# Altium footprint library 2016-06-22_14-55-40.PcbLib: 6 footprints
Each footprint in its own frame and in the unit in brackets; x right, y up, seen from the top. Pads: shape width x height; smd on the part's side, far side on the other; paste and mask are expansions set on the pad; w line width, h text height; cw(c..) or ccw(c..) is an arc to the next point about the centre after c.
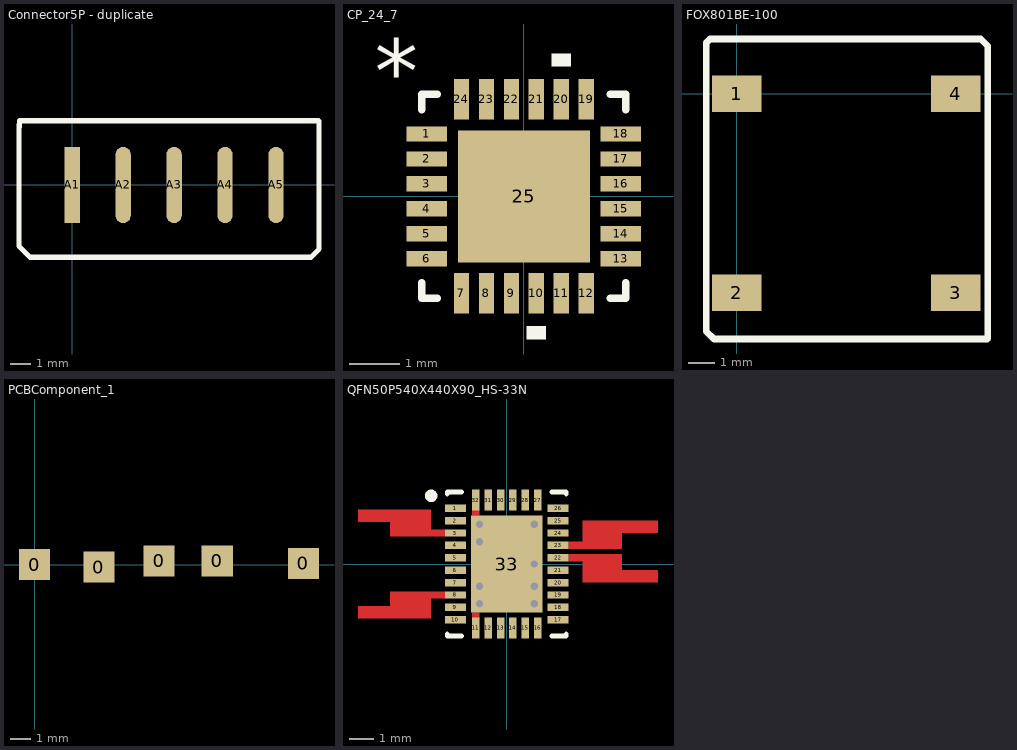
[diagram p0: the footprints below, top view; thin cyan lines are the x and y axes]

## Connector5P - duplicate [mil]
pads (5):
  rect 30x150 smd: A1(0,0)
  oval 30x150 smd: A2(100,0) A3(200,0) A4(300,0) A5(400,0)
Top Overlay:
  lines w10: -104.33,118.11 -104.33,-120.08 -82.68,-141.73 468.5,-141.73 484.25,-125.98 484.25,125 483.27,125.98 -103.35,125.98 -103.35,114.17 ; -103.35,114.17 -103.35,114.17

## CP_24_7 [mil]
pads (25):
  rect 32x12 smd mask+5: 1(-76.5,49.21) 2(-76.5,29.53) 3(-76.5,9.84) 4(-76.5,-9.84) 5(-76.5,-29.53) 6(-76.5,-49.21) 13(76.5,-49.21) 14(76.5,-29.53) 15(76.5,-9.84) 16(76.5,9.84) 17(76.5,29.53) 18(76.5,49.21)
  rect 12x32 smd mask+5: 7(-49.21,-76.5) 8(-29.53,-76.5) 9(-9.84,-76.5) 10(9.84,-76.5) 11(29.53,-76.5) 12(49.21,-76.5) 19(49.21,76.5) 20(29.53,76.5) 21(9.84,76.5) 22(-9.84,76.5) 23(-29.53,76.5) 24(-49.21,76.5)
  rect 104x104 smd mask-51.5: 25(0,0)
Top Overlay:
  region: 17.34,-102.5 2.34,-102.5 2.34,-112.5 17.34,-112.5
  region: 37.03,102.5 22.03,102.5 22.03,112.5 37.03,112.5
  lines w6: -80.5,-68.31 -80.5,-80.5 -68.31,-80.5 ; -80.5,68.31 -80.5,80.5 -68.31,80.5 ; 68.31,-80.5 80.5,-80.5 80.5,-68.31 ; 68.31,80.5 80.5,80.5 80.5,68.31
  text "*" at -117.5,74.06 h50
Mechanical 13:
  text "*" at -117.5,74.06 h50

## FOX801BE-100 [mm]
pads (4):
  rect 1.9x1.4 smd: 1(0,0) 2(0,-7.62) 3(8.4,-7.62) 4(8.4,0)
Top Overlay:
  lines w0.254: -1.175,0.875 -1.175,-9.1 -0.875,-9.4 9.6,-9.4 9.625,-9.375 9.625,1.825 9.35,2.1 -1.025,2.1 -1.175,1.95 -1.175,0.95

## PCBComponent_1 [mil]
pads (5):
  rect 60x60 smd: 0(0,0) 0(124.02,-4.92) 0(240.16,6.89) 0(352.36,6.89) 0(518.7,1.97)

## PCBComponent_1 - duplicate [mm]

## QFN50P540X440X90_HS-33N [mm] "QFN, 32-Leads, Body 5.40x4.40mm, Pitch 0.50mm, Thermal Pad 3.90x2.90mm, IPC Medium Density"
height 0.9
pads (33):
  rect 0.85x0.3 smd mask+0: 1(-2.075,2.25) 3(-2.075,1.25) 4(-2.075,0.75) 5(-2.075,0.25) 6(-2.075,-0.25) 7(-2.075,-0.75) 8(-2.075,-1.25) 9(-2.075,-1.75) 10(-2.075,-2.25) 17(2.075,-2.25) 18(2.075,-1.75) 19(2.075,-1.25) 20(2.075,-0.75) 21(2.075,-0.25) 22(2.075,0.25) 23(2.075,0.75) 24(2.075,1.25) 25(2.075,1.75) 26(2.075,2.25)
  rect 0.85x0.3 smd paste+0 mask+0: 2(-2.075,1.75)
  rect 0.3x0.85 smd mask+0: 11(-1.25,-2.575) 12(-0.75,-2.575) 13(-0.25,-2.575) 14(0.25,-2.575) 15(0.75,-2.575) 16(1.25,-2.575) 27(1.25,2.575) 28(0.75,2.575) 29(0.25,2.575) 30(-0.25,2.575) 31(-0.75,2.575) 32(-1.25,2.575)
  rect 2.9x3.9 smd mask+0: 33(0,0)
via -1.1,0.9 diameter 0.4 hole 0.3
via 1.1,0 diameter 0.4 hole 0.3
via 1.1,1.6 diameter 0.4 hole 0.3
via 1.1,-0.9 diameter 0.4 hole 0.3
via 1.1,-1.6 diameter 0.4 hole 0.3
via -1.1,-1.6 diameter 0.4 hole 0.3
via -1.1,-0.9 diameter 0.4 hole 0.3
via -1.1,1.6 diameter 0.4 hole 0.3
Top Layer:
  rectangle: -6,-2.2 -4.7,-1.7
  rectangle: -6,1.7 -4.7,2.2
  rectangle: -4.7,-2.2 -3.05,-1.1
  rectangle: -3.05,-1.4 -2.5,-1.1
  rectangle: -4.7,1.1 -3.05,2.2
  rectangle: -3.05,1.1 -2.5,1.4
  rectangle: 4.65,-0.75 6.1,-0.25
  rectangle: 4.65,1.25 6.1,1.75
  rectangle: 3.05,0.6 4.65,1.75
  rectangle: 2.5,0.6 3.05,0.9
  rectangle: 3.05,-0.75 4.65,0.4
  rectangle: 2.5,0.1 3.05,0.4
  rectangle: -1.4,1.95 -1.1,2.175
  rectangle: -1.4,-2.2 -1.1,-1.95
Top Overlay:
  circle w0.25: c-3.05,2.75 r0.125
  lines w0.2: -2.4,-2.825 -2.4,-2.9 -1.825,-2.9 ; -2.4,2.825 -2.4,2.9 -1.825,2.9 ; 1.825,-2.9 2.4,-2.9 2.4,-2.825 ; 1.825,2.9 2.4,2.9 2.4,2.825
Top Solder:
  rectangle: -2.7,-3.2 2.7,3.2